# Altium schematic symbol library sym-0010.SchLib: 1 symbol
Pins are listed as number, name and electrical type; pins without a type are passive.

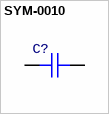
[diagram p0: symbol SYM-0010]

## SYM-0010
designator C?
Generic Capacitor
pins: 1, 2